# EAGLE library part LMH6629 (library analog)
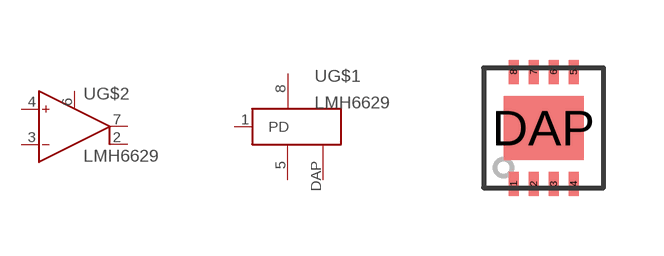
[diagram p8: symbol with the pads of SDA08; footprint SDA08]

Designator prefix -; gates G$1=PWR1-PAD_!PD G$2=OP_FB_COMP

## LMH6629  [SDA08]
1  G$1:PD
2  G$2:FB  out
3  G$2:IN-  in
4  G$2:IN+  in
5  G$1:V-  pwr
6  G$2:COM
7  G$2:OUT  out
8  G$1:V+  pwr
DAP  G$1:PAD  pwr

## Footprint SDA08 (pad centres in mm)
smd 0.25 x 0.6: 1 -0.75,-1.4; 2 -0.25,-1.4; 3 0.25,-1.4; 4 0.75,-1.4; 5 0.75,1.4; 6 0.25,1.4; 7 -0.25,1.4; 8 -0.75,1.4
smd 2 x 1.6: DAP 0,0